# Altium footprint library DragonFly.PcbLib: 28 footprints (part 2 of 2)
Each footprint in its own frame and in the unit in brackets; x right, y up, seen from the top. Pads: shape width x height; smd on the part's side, far side on the other; paste and mask are expansions set on the pad; w line width, h text height; cw(c..) or ccw(c..) is an arc to the next point about the centre after c.
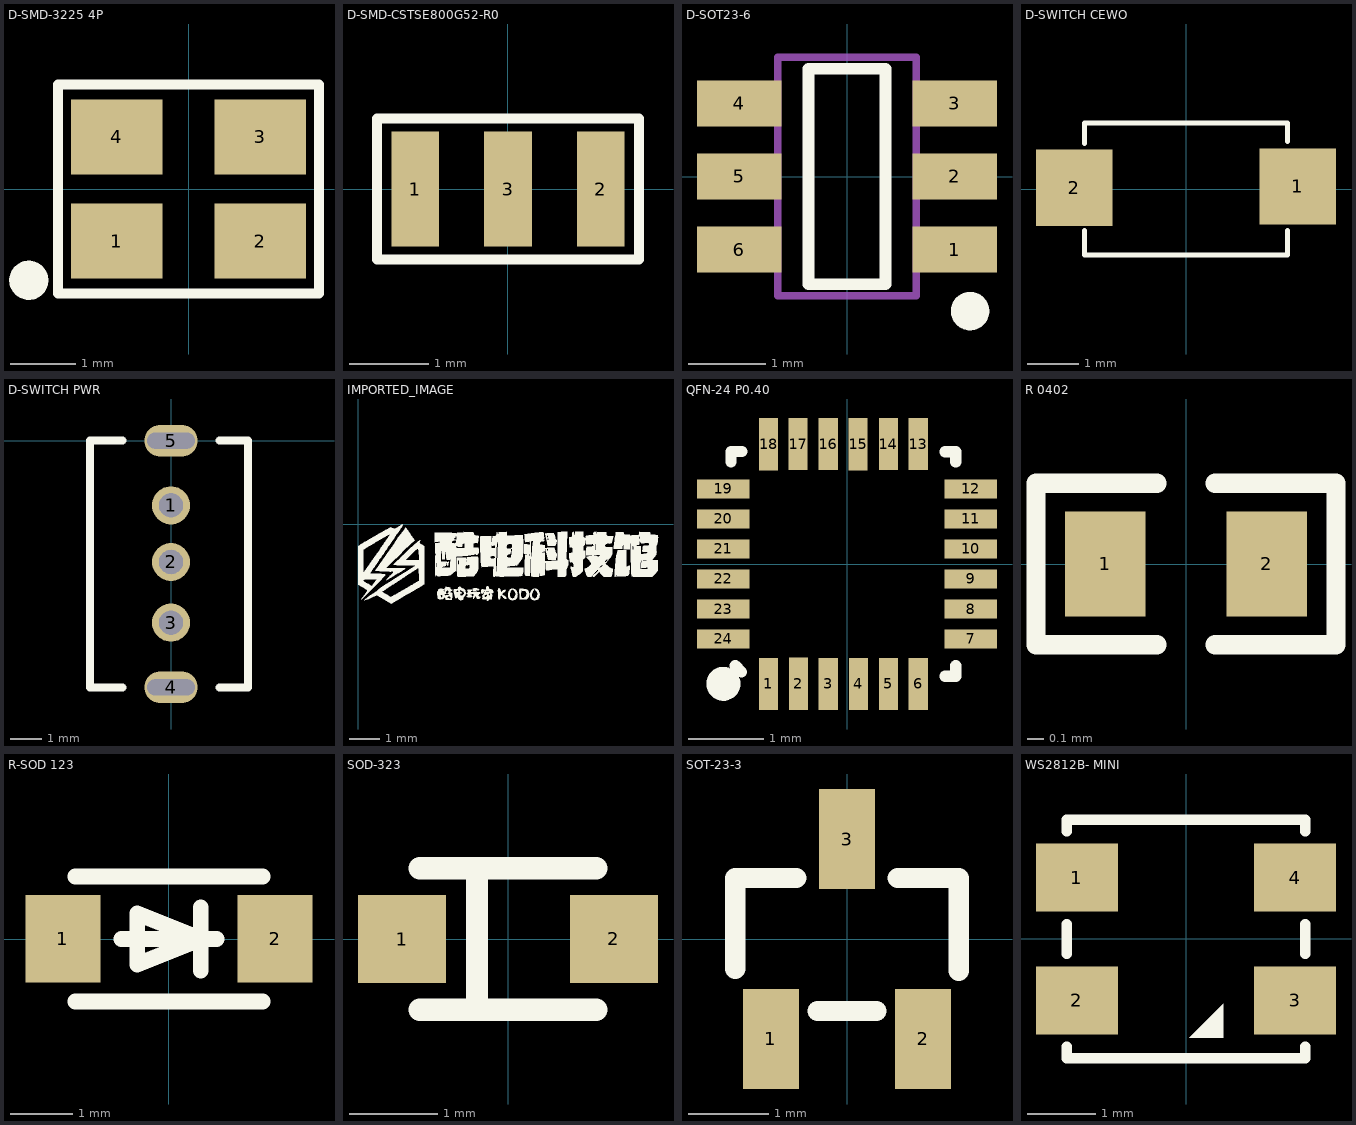
[diagram p1: the footprints below, top view; thin cyan lines are the x and y axes]

## D-SMD-3225 4P [mm]
pads (4):
  rect 1.4x1.15 smd mask+0.102: 1(-1.1,-0.8) 2(1.1,-0.8) 3(1.1,0.8) 4(-1.1,0.8)
Top Overlay:
  lines w0.152: -2,-1.6 -2,1.6 2,1.6 2,-1.6 -2,-1.6
  lines w0.3: -2.457,-1.55 cw(c-2.45,-1.4) -2.45,-1.55

## D-SMD-CSTSE800G52-R0 [mm]
pads (3):
  rect 0.6x1.45 smd mask+0.102: 1(-1.168,0) 2(1.168,0) 3(0,0)
Top Overlay:
  lines w0.127: -1.651,-0.889 1.651,-0.889 1.651,0.889 -1.651,0.889 -1.651,-0.889

## D-SOT23-6 [mm]
pads (6):
  rect 1.1x0.6 smd mask+0.102: 1(1.4,-0.95) 2(1.4,0) 3(1.4,0.95) 4(-1.4,0.95) 5(-1.4,0) 6(-1.4,-0.95)
Top Overlay:
  lines w0.152: -0.5,-1.4 0.5,-1.4 0.5,1.4 -0.5,1.4 -0.5,-1.4
  lines w0.25: 1.725,-1.756 cw(c1.6,-1.75) 1.725,-1.75
Mechanical 1:
  lines w0.1: -0.9,-1.55 -0.9,1.55 0.9,1.55 0.9,-1.55 -0.9,-1.55

## D-SWITCH CEWO [mm]
pads (2):
  rect 1.5x1.5 smd mask+0.102: 1(2.2,0.051) 2(-2.2,0.025)
Top Overlay:
  lines w0.1: -2,-0.819 -2,-1.3 2,-1.3 2,-0.819 ; -2,0.896 -2,1.3 2,1.3 2,0.933

## D-SWITCH PWR [mm]
pads (5):
  round 1.2 hole 0.75 slot 0.755 at 90 deg mask+0.102: 1(0,-2.032) 2(0,-3.81) 3(0,-5.715)
  oval 1.676x1 hole 0.5 slot 1.5 at 0 deg mask+0.102: 4(0,-7.747) 5(0,0)
Top Overlay:
  lines w0.25: -1.524,-7.747 -2.54,-7.747 -2.54,0 -1.524,0 ; 1.524,-7.747 2.413,-7.747 2.413,0 1.524,0

## IMPORTED_IMAGE [mm]
Top Overlay:
  drawing of 24 lines, arcs and shapes, not listed

## QFN-24 P0.40 [mil]
pads (24):
  rect 10x27.56 smd mask+4: 1(-41.35,-63.05) 2(-25.55,-62.95) 3(-9.85,-63.05) 4(5.95,-63.05) 5(21.75,-63.05) 6(37.45,-63.05) 13(37.45,63.05) 14(21.75,63.05) 15(5.85,62.95) 16(-9.85,63.05) 17(-25.65,63.05) 18(-41.25,62.95)
  rect 27.56x10 smd mask+4: 7(65.05,-39.35) 8(65.05,-23.65) 9(65.05,-7.85) 10(65.05,7.95) 11(64.95,23.65) 12(64.95,39.45) 19(-65.05,39.45) 20(-65.05,23.75) 21(-65.05,7.95) 22(-65.05,-7.85) 23(-65.05,-23.65) 24(-65.05,-39.35)
Top Overlay:
  circle w10: c-64.94,-62.94 r3.94
  lines w5.91: -61,53.55 -61,59.11 -55.35,59.11 ; -58.71,-53.42 -55.42,-56.71 ; 51.55,-59.05 57.12,-59.05 57.12,-53.45 ; 51.55,59.05 57.13,59.05 57.13,53.55

## R 0402 [mm]
pads (2):
  rect 0.5x0.65 smd mask+0.102: 1(-0.5,0) 2(0.5,0)
Top Overlay:
  lines w0.12: -0.18,-0.5 -0.93,-0.5 -0.93,0.5 -0.18,0.5 ; 0.18,-0.5 0.93,-0.5 0.93,0.5 0.18,0.5

## R-SOD 123 [mm]
pads (2):
  rect 1.2x1.4 smd mask+0.102: 1(-1.7,0) 2(1.7,0)
Top Overlay:
  lines w0.254: -1.5,-1 1.5,-1 ; -1.5,1 1.5,1 ; -0.762,0 0.762,0 ; 0.508,-0.508 0.508,0.508 ; -0.508,-0.406 0.508,0 -0.508,0.406 -0.508,-0.406

## SOD-323 [mm]
pads (2):
  rect 1x1 smd mask+0.102: 1(-1.2,0) 2(1.2,0)
Top Overlay:
  lines w0.254: -1,-0.8 1,-0.8 ; -1,0.8 1,0.8 ; -0.351,-0.8 -0.351,0.8

## SOT-23-3 [mm]
pads (3):
  rect 0.7x1.25 smd mask+0.102: 1(-0.95,-1.25) 2(0.95,-1.25) 3(0,1.25)
Top Overlay:
  lines w0.254: -1.397,-0.375 -1.397,0.762 -0.635,0.762 ; -0.369,-0.9 0.369,-0.9 ; 0.635,0.762 1.397,0.762 ; 1.397,-0.396 1.397,0.761

## WS2812B- MINI [mm]
pads (4):
  rect 1.2x1 smd mask+0.102: 1(-1.6,0.9) 2(-1.6,-0.9) 3(1.6,-0.9) 4(1.6,0.9)
Top Overlay:
  region: 0.05,-1.45 0.55,-1.45 0.55,-0.95
  lines w0.152: -1.75,-1.58 -1.75,-1.75 1.75,-1.75 1.75,-1.58 ; -1.75,-0.22 -1.75,0.22 ; -1.75,1.58 -1.75,1.75 1.75,1.75 1.75,1.58 ; 1.75,-0.22 1.75,0.22